# EAGLE library part ATTINYX61 (library ATtinyX61)
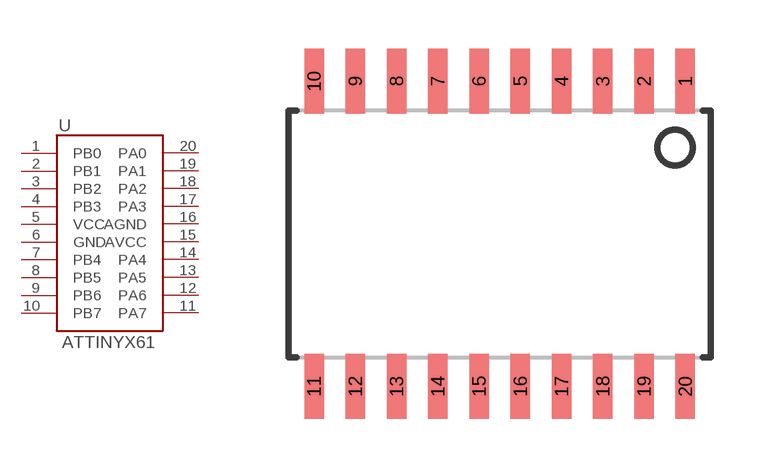
[diagram p0: symbol with the pads of 20S2; footprint 20S2]

Designator prefix -

## ATTINYX61SOIC  [20S2]
1  PB0
2  PB1
3  PB2
4  PB3
5  VCC
6  GND
7  PB4
8  PB5
9  PB6
10  PB7
11  PA7
12  PA6
13  PA5
14  PA4
15  AVCC
16  AGND
17  PA3
18  PA2
19  PA1
20  PA0

## Footprint 20S2 (pad centres in mm)
smd 0.6 x 2: 1 5.715,4.7; 2 4.445,4.7; 3 3.175,4.7; 4 1.905,4.7; 5 0.635,4.7; 6 -0.635,4.7; 7 -1.905,4.7; 8 -3.175,4.7; 9 -4.445,4.7; 10 -5.715,4.7; 11 -5.715,-4.7; 12 -4.445,-4.7; 13 -3.175,-4.7; 14 -1.905,-4.7; 15 -0.635,-4.7; 16 0.635,-4.7; 17 1.905,-4.7; 18 3.175,-4.7; 19 4.445,-4.7; 20 5.715,-4.7